# Altium schematic symbol library Interface_Expansion.SchLib: 94 symbols (part 2 of 2)
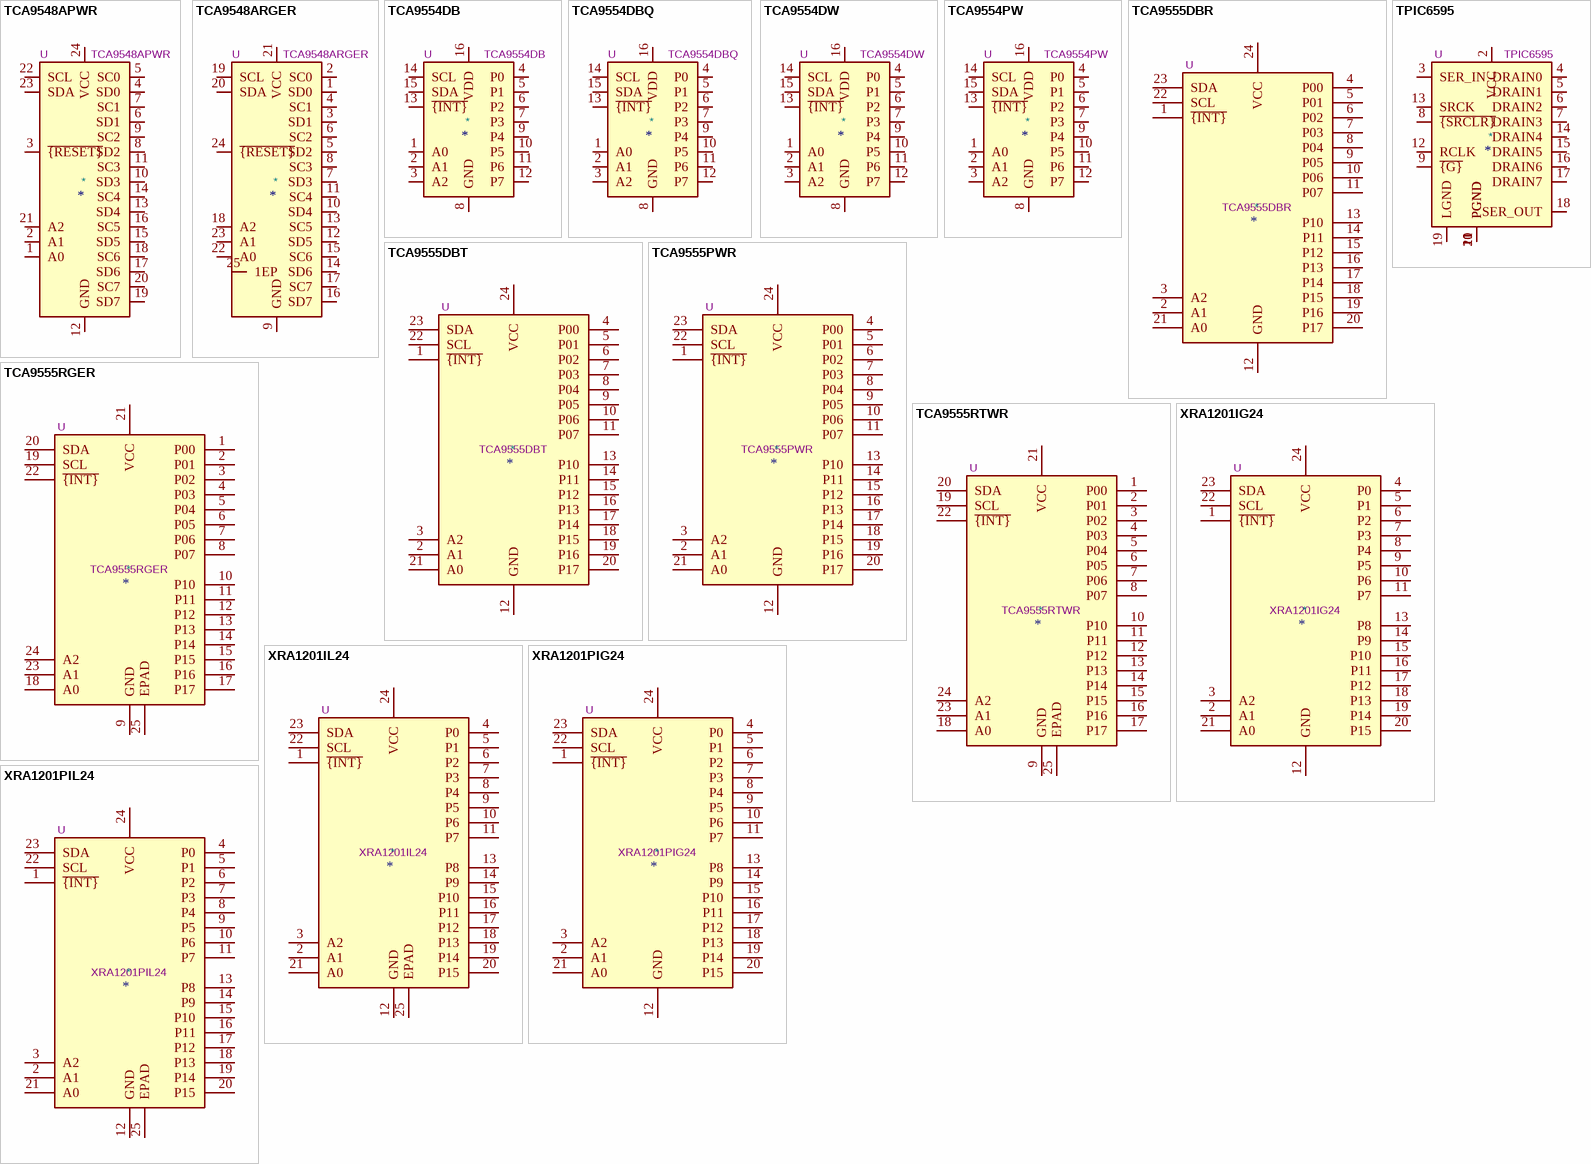
[diagram p4: symbols TCA9548APWR to XRA1201PIL24]

## TCA9548ARGER
designator *  value TCA9548ARGER  Reference: U
Low voltage 8-channel I2C switch with reset, QFN-24; ki_fp_filters: Texas*RGE0024C*; Footprint: Package_DFN_QFN:Texas_RGE0024C_VQFN-24-1EP_4x4mm_P0.5mm_EP2.1x2.1mm; Datasheet: http://www.ti.com/lit/ds/symlink/tca9548a.pdf; Description_: Low voltage 8-channel I2C switch with reset, QFN-24; ki_keywords: Low voltage 8-channel I2C switch with reset
pins: 1 SD0, 2 SC0, 3 SD1, 4 SC1, 5 SD2, 6 SC2, 7 SD3, 8 SC3, 9 GND, 10 SD4, 11 SC4, 12 SD5, 13 SC5, 14 SD6, 15 SC6, 16 SD7, 17 SC7, 18 A2, 19 SCL, 20 SDA, 21 VCC, 22 A0, 23 A1, 24 ~{{RESET}}, 25 1EP

## TCA9554DB
designator *  value TCA9554DB  Reference: U
8 Bit Port/Expander, I2C SMBUS, Interrupt output, SSOP-16; ki_keywords: SMBUS I2C Expander; ki_fp_filters: SSOP*5.3x6.2mm*P0.65mm*; Footprint: Package_SO:SSOP-16_5.3x6.2mm_P0.65mm; Datasheet: http://www.ti.com/lit/ds/symlink/tca9554.pdf; Description_: 8 Bit Port/Expander, I2C SMBUS, Interrupt output, SSOP-16
pins: 1 A0, 2 A1, 3 A2, 4 P0, 5 P1, 6 P2, 7 P3, 8 GND, 9 P4, 10 P5, 11 P6, 12 P7, 13 ~{{INT}}, 14 SCL, 15 SDA, 16 VDD

## TCA9554DBQ
designator *  value TCA9554DBQ  Reference: U
8 Bit Port/Expander, I2C SMBUS, Interrupt output, SSOP-16; ki_keywords: SMBUS I2C Expander; ki_fp_filters: SSOP*3.9x4.9mm*P0.635mm*; Footprint: Package_SO:SSOP-16_3.9x4.9mm_P0.635mm; Datasheet: http://www.ti.com/lit/ds/symlink/tca9554.pdf; Description_: 8 Bit Port/Expander, I2C SMBUS, Interrupt output, SSOP-16
pins: 1 A0, 2 A1, 3 A2, 4 P0, 5 P1, 6 P2, 7 P3, 8 GND, 9 P4, 10 P5, 11 P6, 12 P7, 13 ~{{INT}}, 14 SCL, 15 SDA, 16 VDD

## TCA9554DW
designator *  value TCA9554DW  Reference: U
8 Bit Port/Expander, I2C SMBUS, Interrupt output, SOIC-16; ki_keywords: SMBUS I2C Expander; ki_fp_filters: SOIC*7.5x10.3mm*P1.27mm*; Footprint: Package_SO:SOIC-16W_7.5x10.3mm_P1.27mm; Datasheet: http://www.ti.com/lit/ds/symlink/tca9554.pdf; Description_: 8 Bit Port/Expander, I2C SMBUS, Interrupt output, SOIC-16
pins: 1 A0, 2 A1, 3 A2, 4 P0, 5 P1, 6 P2, 7 P3, 8 GND, 9 P4, 10 P5, 11 P6, 12 P7, 13 ~{{INT}}, 14 SCL, 15 SDA, 16 VDD

## TCA9554PW
designator *  value TCA9554PW  Reference: U
8 Bit Port/Expander, I2C SMBUS, Interrupt output, TSSOP-16; ki_keywords: SMBUS I2C Expander; ki_fp_filters: TSSOP*4.4x5mm*P0.65mm*; Footprint: Package_SO:TSSOP-16_4.4x5mm_P0.65mm; Datasheet: http://www.ti.com/lit/ds/symlink/tca9554.pdf; Description_: 8 Bit Port/Expander, I2C SMBUS, Interrupt output, TSSOP-16
pins: 1 A0, 2 A1, 3 A2, 4 P0, 5 P1, 6 P2, 7 P3, 8 GND, 9 P4, 10 P5, 11 P6, 12 P7, 13 ~{{INT}}, 14 SCL, 15 SDA, 16 VDD

## TCA9555DBR
designator *  value TCA9555DBR  Reference: U
16-bit I/O expander, I2C and SMBus interface, interrupts, w/ pull-ups, SSOP-24; ki_keywords: ti parallel port; ki_fp_filters: SSOP*5.3x8.2mm*P0.65mm*; Footprint: Package_SO:SSOP-24_5.3x8.2mm_P0.65mm; Datasheet: http://www.ti.com/lit/ds/symlink/tca9555.pdf; Description_: 16-bit I/O expander, I2C and SMBus interface, interrupts, w/ pull-ups, SSOP-24
pins: 1 ~{{INT}}, 2 A1, 3 A2, 4 P00, 5 P01, 6 P02, 7 P03, 8 P04, 9 P05, 10 P06, 11 P07, 12 GND, 13 P10, 14 P11, 15 P12, 16 P13, 17 P14, 18 P15, 19 P16, 20 P17, 21 A0, 22 SCL, 23 SDA, 24 VCC

## TCA9555DBT
designator *  value TCA9555DBT  Reference: U
16-bit I/O expander, I2C and SMBus interface, interrupts, w/ pull-ups, SSOP-24; ki_keywords: ti parallel port; ki_fp_filters: SSOP*5.3x8.2mm*P0.65mm*; Footprint: Package_SO:SSOP-24_5.3x8.2mm_P0.65mm; Datasheet: http://www.ti.com/lit/ds/symlink/tca9555.pdf; Description_: 16-bit I/O expander, I2C and SMBus interface, interrupts, w/ pull-ups, SSOP-24
pins: 1 ~{{INT}}, 2 A1, 3 A2, 4 P00, 5 P01, 6 P02, 7 P03, 8 P04, 9 P05, 10 P06, 11 P07, 12 GND, 13 P10, 14 P11, 15 P12, 16 P13, 17 P14, 18 P15, 19 P16, 20 P17, 21 A0, 22 SCL, 23 SDA, 24 VCC

## TCA9555PWR
designator *  value TCA9555PWR  Reference: U
16-bit I/O expander, I2C and SMBus interface, interrupts, w/ pull-ups, TSSOP-24 package; ki_keywords: ti parallel port; ki_fp_filters: TSSOP*4.4x7.8mm*P0.65mm*; Footprint: Package_SO:TSSOP-24_4.4x7.8mm_P0.65mm; Datasheet: http://www.ti.com/lit/ds/symlink/tca9555.pdf; Description_: 16-bit I/O expander, I2C and SMBus interface, interrupts, w/ pull-ups, TSSOP-24 package
pins: 1 ~{{INT}}, 2 A1, 3 A2, 4 P00, 5 P01, 6 P02, 7 P03, 8 P04, 9 P05, 10 P06, 11 P07, 12 GND, 13 P10, 14 P11, 15 P12, 16 P13, 17 P14, 18 P15, 19 P16, 20 P17, 21 A0, 22 SCL, 23 SDA, 24 VCC

## TCA9555RGER
designator *  value TCA9555RGER  Reference: U
16-bit I/O expander, I2C and SMBus interface, interrupts, w/ pull-ups, QFN-24; ki_keywords: ti parallel port; ki_fp_filters: VQFN*1EP*4x4mm*P0.5mm*; Footprint: Package_DFN_QFN:VQFN-24-1EP_4x4mm_P0.5mm_EP2.45x2.45mm; Datasheet: http://www.ti.com/lit/ds/symlink/tca9555.pdf; Description_: 16-bit I/O expander, I2C and SMBus interface, interrupts, w/ pull-ups, QFN-24
pins: 1 P00, 2 P01, 3 P02, 4 P03, 5 P04, 6 P05, 7 P06, 8 P07, 9 GND, 10 P10, 11 P11, 12 P12, 13 P13, 14 P14, 15 P15, 16 P16, 17 P17, 18 A0, 19 SCL, 20 SDA, 21 VCC, 22 ~{{INT}}, 23 A1, 24 A2, 25 EPAD

## TCA9555RTWR
designator *  value TCA9555RTWR  Reference: U
16-bit I/O expander, I2C and SMBus interface, interrupts, w/ pull-ups, QFN-24; ki_keywords: ti parallel port; ki_fp_filters: WQFN*1EP*4x4mm*P0.5mm*; Footprint: Package_DFN_QFN:WQFN-24-1EP_4x4mm_P0.5mm_EP2.45x2.45mm; Datasheet: http://www.ti.com/lit/ds/symlink/tca9555.pdf; Description_: 16-bit I/O expander, I2C and SMBus interface, interrupts, w/ pull-ups, QFN-24
pins: 1 P00, 2 P01, 3 P02, 4 P03, 5 P04, 6 P05, 7 P06, 8 P07, 9 GND, 10 P10, 11 P11, 12 P12, 13 P13, 14 P14, 15 P15, 16 P16, 17 P17, 18 A0, 19 SCL, 20 SDA, 21 VCC, 22 ~{{INT}}, 23 A1, 24 A2, 25 EPAD

## TPIC6595
designator *  value TPIC6595  Reference: U
Power Logic 8-bit Shift Register, DIP-8/SOIC-8; ki_keywords: shift register 8bit; ki_fp_filters: SOIC*7.5x12.8mm*P1.27mm* DIP*W7.62mm*; Datasheet: http://www.ti.com/lit/ds/symlink/tpic6595.pdf; Description_: Power Logic 8-bit Shift Register, DIP-8/SOIC-8
pins: 1 PGND, 2 VCC, 3 SER_IN, 4 DRAIN0, 5 DRAIN1, 6 DRAIN2, 7 DRAIN3, 8 ~{{SRCLR}}, 9 ~{{G}}, 10 PGND, 11 PGND, 12 RCLK, 13 SRCK, 14 DRAIN4, 15 DRAIN5, 16 DRAIN6, 17 DRAIN7, 18 SER_OUT, 19 LGND, 20 PGND

## XRA1201IG24
designator *  value XRA1201IG24  Reference: U
16-bit I/O expander, I2C and SMBus interface, interrupts, w/ optional pull-ups, TSSOP-24 package; ki_keywords: IO expander i2c; ki_fp_filters: TSSOP*4.4x7.8mm*P0.65mm*; Footprint: Package_SO:TSSOP-24_4.4x7.8mm_P0.65mm; Datasheet: https://maxlinear-assets.azureedge.net/web/documents/xra1201.pdf; Description_: 16-bit I/O expander, I2C and SMBus interface, interrupts, w/ optional pull-ups, TSSOP-24 package
pins: 1 ~{{INT}}, 2 A1, 3 A2, 4 P0, 5 P1, 6 P2, 7 P3, 8 P4, 9 P5, 10 P6, 11 P7, 12 GND, 13 P8, 14 P9, 15 P10, 16 P11, 17 P12, 18 P13, 19 P14, 20 P15, 21 A0, 22 SCL, 23 SDA, 24 VCC

## XRA1201IL24
designator *  value XRA1201IL24  Reference: U
16-bit I/O expander, I2C and SMBus interface, interrupts, w/ optional pull-ups, QFN-24 package; ki_keywords: IO expander i2c; ki_fp_filters: VQFN*1EP*4x4mm*P0.5mm*; Footprint: Package_DFN_QFN:VQFN-24-1EP_4x4mm_P0.5mm_EP2.45x2.45mm; Datasheet: https://maxlinear-assets.azureedge.net/web/documents/xra1201.pdf; Description_: 16-bit I/O expander, I2C and SMBus interface, interrupts, w/ optional pull-ups, QFN-24 package
pins: 1 ~{{INT}}, 2 A1, 3 A2, 4 P0, 5 P1, 6 P2, 7 P3, 8 P4, 9 P5, 10 P6, 11 P7, 12 GND, 13 P8, 14 P9, 15 P10, 16 P11, 17 P12, 18 P13, 19 P14, 20 P15, 21 A0, 22 SCL, 23 SDA, 24 VCC, 25 EPAD

## XRA1201PIG24
designator *  value XRA1201PIG24  Reference: U
16-bit I/O expander, I2C and SMBus interface, interrupts, w/ pull-ups, TSSOP-24 package; ki_keywords: IO expander i2c; ki_fp_filters: TSSOP*4.4x7.8mm*P0.65mm*; Footprint: Package_SO:TSSOP-24_4.4x7.8mm_P0.65mm; Datasheet: https://maxlinear-assets.azureedge.net/web/documents/xra1201.pdf; Description_: 16-bit I/O expander, I2C and SMBus interface, interrupts, w/ pull-ups, TSSOP-24 package
pins: 1 ~{{INT}}, 2 A1, 3 A2, 4 P0, 5 P1, 6 P2, 7 P3, 8 P4, 9 P5, 10 P6, 11 P7, 12 GND, 13 P8, 14 P9, 15 P10, 16 P11, 17 P12, 18 P13, 19 P14, 20 P15, 21 A0, 22 SCL, 23 SDA, 24 VCC

## XRA1201PIL24
designator *  value XRA1201PIL24  Reference: U
16-bit I/O expander, I2C and SMBus interface, interrupts, w/ pull-ups, QFN-24 package; ki_keywords: IO expander i2c; ki_fp_filters: VQFN*1EP*4x4mm*P0.5mm*; Footprint: Package_DFN_QFN:VQFN-24-1EP_4x4mm_P0.5mm_EP2.45x2.45mm; Datasheet: https://maxlinear-assets.azureedge.net/web/documents/xra1201.pdf; Description_: 16-bit I/O expander, I2C and SMBus interface, interrupts, w/ pull-ups, QFN-24 package
pins: 1 ~{{INT}}, 2 A1, 3 A2, 4 P0, 5 P1, 6 P2, 7 P3, 8 P4, 9 P5, 10 P6, 11 P7, 12 GND, 13 P8, 14 P9, 15 P10, 16 P11, 17 P12, 18 P13, 19 P14, 20 P15, 21 A0, 22 SCL, 23 SDA, 24 VCC, 25 EPAD